# EAGLE library part LED_7SEGX3+DP (library Diodes)
LED (3x7-segment)
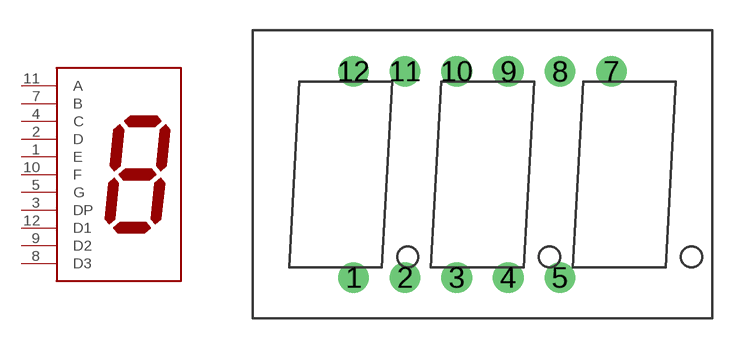
[diagram p1: symbol with the pads of 7SEG-.36"; footprint 7SEG-.36"]

Designator prefix -

## LED_7SEGX3+DP  [7SEG-.36"]
1  E
2  D
3  DP
4  C
5  G
7  B
8  D3
9  D2
10  F
11  A
12  D1

## Footprint 7SEG-.36" (pad centres in mm)
drill 1: 1 -6.35,-5.08; 2 -3.81,-5.08; 3 -1.27,-5.08; 4 1.27,-5.08; 5 3.81,-5.08; 7 6.35,5.08; 8 3.81,5.08; 9 1.27,5.08; 10 -1.27,5.08; 11 -3.81,5.08; 12 -6.35,5.08